# Altium schematic symbol library NCP700B.SchLib: 1 symbol
Pins are listed as number, name and electrical type; pins without a type are passive.

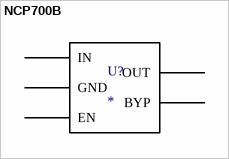
[diagram p0: symbol NCP700B]

## NCP700B
designator U?
footprint NCP700B-TSOP5
pins: 1 IN, 2 GND, 3 EN, 4 BYP, 5 OUT